# Altium integrated library MSTBV 2.5-xx-G-5.08.IntLib: 10 symbols
Pins are listed as number, name and electrical type; pins without a type are passive.

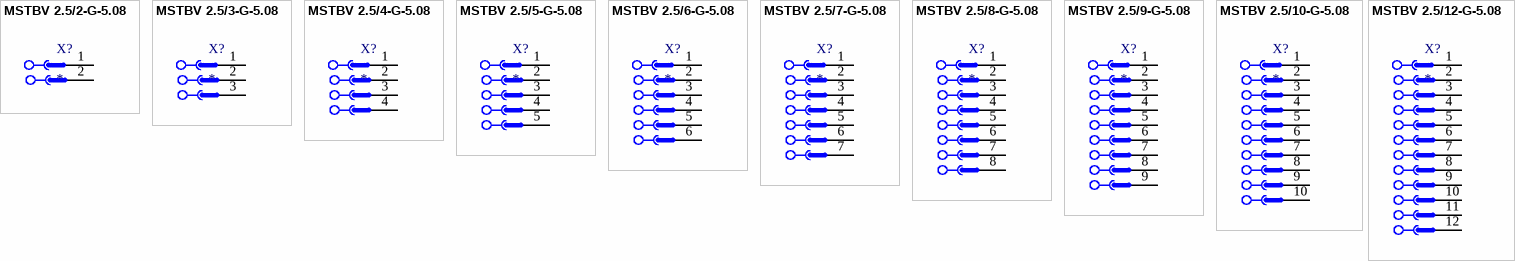
[diagram p0: symbols MSTBV 2.5/2-G-5.08 to MSTBV 2.5/12-G-5.08]

## MSTBV 2.5/2-G-5.08
designator X?
5.08mm Pluggable Terminal Blocks, PCB, Single Level, Through-Hole Solder Mounting; Manufacturer: Phoenix Contact; Company: Altium 3D Lib; Designer: Eng. Saeid Jorablo; Max Load Current: 12 A; Note: without side panels; Positions: 2; Rated voltage: 320 V; Assembly: Soldering; Contact surface: Tin; Pitch: 5.08 mm (200mil); Category: Connector; ComponentLink1Description: Datasheet; ComponentLink1URL: http://www.mouser.com/catalog/645/usd/1739.pdf; ComponentLink2Description: Manufactor website; ComponentLink2URL: https://www.phoenixcontact.com; Connector type: Pluggable Terminal Block; Mounting Technology: Through-Hole; Orientation: 180° Socket to Pin; Pin Count: 2; Publisher: Altium-Library.ir; Revision 1: 2014-05-31; Status: Published; Color: Green
footprint 1758018 (PHOENIX CONTACT, MSTBV 2,5/ 2-G-5,08 - Base strip, 2 position, 180° Socket-to-Pin Orientation, Without side panels)
pins: 1, 2

## MSTBV 2.5/3-G-5.08
designator X?
5.08mm Pluggable Terminal Blocks, PCB, Single Level, Through-Hole Solder Mounting; Manufacturer: Phoenix Contact; Company: Altium 3D Lib; Designer: Eng. Saeid Jorablo; Max Load Current: 12 A; Note: without side panels; Positions: 3; Rated voltage: 320 V; Assembly: Soldering; Contact surface: Tin; Pitch: 5.08 mm (200mil); Category: Connector; ComponentLink1Description: Datasheet; ComponentLink1URL: http://www.mouser.com/catalog/645/usd/1739.pdf; ComponentLink2Description: Manufactor website; ComponentLink2URL: https://www.phoenixcontact.com; Connector type: Pluggable Terminal Block; Mounting Technology: Through-Hole; Orientation: 180° Socket to Pin; Pin Count: 3; Publisher: Altium-Library.ir; Revision 1: 2014-05-31; Status: Published; Color: Green
footprint 1758021 (PHOENIX CONTACT, MSTBV 2,5/ 2-G-5,08 - Base strip, 3 position, 180° Socket-to-Pin Orientation, Without side panels)
pins: 1, 2, 3

## MSTBV 2.5/4-G-5.08
designator X?
5.08mm Pluggable Terminal Blocks, PCB, Single Level, Through-Hole Solder Mounting; Manufacturer: Phoenix Contact; Company: Altium 3D Lib; Designer: Eng. Saeid Jorablo; Max Load Current: 12 A; Note: without side panels; Positions: 4; Rated voltage: 320 V; Assembly: Soldering; Contact surface: Tin; Pitch: 5.08 mm (200mil); Category: Connector; ComponentLink1Description: Datasheet; ComponentLink1URL: http://www.mouser.com/catalog/645/usd/1739.pdf; ComponentLink2Description: Manufactor website; ComponentLink2URL: https://www.phoenixcontact.com; Connector type: Pluggable Terminal Block; Mounting Technology: Through-Hole; Orientation: 180° Socket to Pin; Pin Count: 4; Publisher: Altium-Library.ir; Revision 1: 2014-05-31; Status: Published; Color: Green
footprint 1758034 (PHOENIX CONTACT, MSTBV 2,5/ 2-G-5,08 - Base strip, 4 position, 180° Socket-to-Pin Orientation, Without side panels)
pins: 1, 2, 3, 4

## MSTBV 2.5/5-G-5.08
designator X?
5.08mm Pluggable Terminal Blocks, PCB, Single Level, Through-Hole Solder Mounting; Manufacturer: Phoenix Contact; Company: Altium 3D Lib; Designer: Eng. Saeid Jorablo; Max Load Current: 12 A; Note: without side panels; Positions: 5; Rated voltage: 320 V; Assembly: Soldering; Contact surface: Tin; Pitch: 5.08 mm (200mil); Category: Connector; ComponentLink1Description: Datasheet; ComponentLink1URL: http://www.mouser.com/catalog/645/usd/1739.pdf; ComponentLink2Description: Manufactor website; ComponentLink2URL: https://www.phoenixcontact.com; Connector type: Pluggable Terminal Block; Mounting Technology: Through-Hole; Orientation: 180° Socket to Pin; Pin Count: 5; Publisher: Altium-Library.ir; Revision 1: 2014-05-31; Status: Published; Color: Green
footprint 1758047 (PHOENIX CONTACT, MSTBV 2,5/ 2-G-5,08 - Base strip, 5 position, 180° Socket-to-Pin Orientation, Without side panels)
pins: 1, 2, 3, 4, 5

## MSTBV 2.5/6-G-5.08
designator X?
5.08mm Pluggable Terminal Blocks, PCB, Single Level, Through-Hole Solder Mounting; Manufacturer: Phoenix Contact; Company: Altium 3D Lib; Designer: Eng. Saeid Jorablo; Max Load Current: 12 A; Note: without side panels; Positions: 6; Rated voltage: 320 V; Assembly: Soldering; Contact surface: Tin; Pitch: 5.08 mm (200mil); Category: Connector; ComponentLink1Description: Datasheet; ComponentLink1URL: http://www.mouser.com/catalog/645/usd/1739.pdf; ComponentLink2Description: Manufactor website; ComponentLink2URL: https://www.phoenixcontact.com; Connector type: Pluggable Terminal Block; Mounting Technology: Through-Hole; Orientation: 180° Socket to Pin; Pin Count: 6; Publisher: Altium-Library.ir; Revision 1: 2014-05-31; Status: Published; Color: Green
footprint 1758050 (PHOENIX CONTACT, MSTBV 2,5/ 2-G-5,08 - Base strip, 6 position, 180° Socket-to-Pin Orientation, Without side panels)
pins: 1, 2, 3, 4, 5, 6

## MSTBV 2.5/7-G-5.08
designator X?
5.08mm Pluggable Terminal Blocks, PCB, Single Level, Through-Hole Solder Mounting; Manufacturer: Phoenix Contact; Company: Altium 3D Lib; Designer: Eng. Saeid Jorablo; Max Load Current: 12 A; Note: without side panels; Positions: 7; Rated voltage: 320 V; Assembly: Soldering; Contact surface: Tin; Pitch: 5.08 mm (200mil); Category: Connector; ComponentLink1Description: Datasheet; ComponentLink1URL: http://www.mouser.com/catalog/645/usd/1739.pdf; ComponentLink2Description: Manufactor website; ComponentLink2URL: https://www.phoenixcontact.com; Connector type: Pluggable Terminal Block; Mounting Technology: Through-Hole; Orientation: 180° Socket to Pin; Pin Count: 7; Publisher: Altium-Library.ir; Revision 1: 2014-05-31; Status: Published; Color: Green
footprint 1758063 (PHOENIX CONTACT, MSTBV 2,5/ 2-G-5,08 - Base strip, 7 position, 180° Socket-to-Pin Orientation, Without side panels)
pins: 1, 2, 3, 4, 5, 6, 7

## MSTBV 2.5/8-G-5.08
designator X?
5.08mm Pluggable Terminal Blocks, PCB, Single Level, Through-Hole Solder Mounting; Manufacturer: Phoenix Contact; Company: Altium 3D Lib; Designer: Eng. Saeid Jorablo; Max Load Current: 12 A; Note: without side panels; Positions: 8; Rated voltage: 320 V; Assembly: Soldering; Contact surface: Tin; Pitch: 5.08 mm (200mil); Category: Connector; ComponentLink1Description: Datasheet; ComponentLink1URL: http://www.mouser.com/catalog/645/usd/1739.pdf; ComponentLink2Description: Manufactor website; ComponentLink2URL: https://www.phoenixcontact.com; Connector type: Pluggable Terminal Block; Mounting Technology: Through-Hole; Orientation: 180° Socket to Pin; Pin Count: 8; Publisher: Altium-Library.ir; Revision 1: 2014-05-31; Status: Published; Color: Green
footprint 1758076 (PHOENIX CONTACT, MSTBV 2,5/ 2-G-5,08 - Base strip, 8 position, 180° Socket-to-Pin Orientation, Without side panels)
pins: 1, 2, 3, 4, 5, 6, 7, 8

## MSTBV 2.5/9-G-5.08
designator X?
5.08mm Pluggable Terminal Blocks, PCB, Single Level, Through-Hole Solder Mounting; Manufacturer: Phoenix Contact; Company: Altium 3D Lib; Designer: Eng. Saeid Jorablo; Max Load Current: 12 A; Note: without side panels; Positions: 9; Rated voltage: 320 V; Assembly: Soldering; Contact surface: Tin; Pitch: 5.08 mm (200mil); Category: Connector; ComponentLink1Description: Datasheet; ComponentLink1URL: http://www.mouser.com/catalog/645/usd/1739.pdf; ComponentLink2Description: Manufactor website; ComponentLink2URL: https://www.phoenixcontact.com; Connector type: Pluggable Terminal Block; Mounting Technology: Through-Hole; Orientation: 180° Socket to Pin; Pin Count: 9; Publisher: Altium-Library.ir; Revision 1: 2014-05-31; Status: Published; Color: Green
footprint 1758089 (PHOENIX CONTACT, MSTBV 2,5/ 2-G-5,08 - Base strip, 9 position, 180° Socket-to-Pin Orientation, Without side panels)
pins: 1, 2, 3, 4, 5, 6, 7, 8, 9

## MSTBV 2.5/10-G-5.08
designator X?
5.08mm Pluggable Terminal Blocks, PCB, Single Level, Through-Hole Solder Mounting; Manufacturer: Phoenix Contact; Company: Altium 3D Lib; Designer: Eng. Saeid Jorablo; Max Load Current: 12 A; Note: without side panels; Positions: 10; Rated voltage: 320 V; Assembly: Soldering; Contact surface: Tin; Pitch: 5.08 mm (200mil); Category: Connector; ComponentLink1Description: Datasheet; ComponentLink1URL: http://www.mouser.com/catalog/645/usd/1739.pdf; ComponentLink2Description: Manufactor website; ComponentLink2URL: https://www.phoenixcontact.com; Connector type: Pluggable Terminal Block; Mounting Technology: Through-Hole; Orientation: 180° Socket to Pin; Pin Count: 10; Publisher: Altium-Library.ir; Revision 1: 2014-05-31; Status: Published; Color: Green
footprint 1758092 (PHOENIX CONTACT, MSTBV 2,5/ 2-G-5,08 - Base strip, 10 position, 180° Socket-to-Pin Orientation, Without side panels)
pins: 1, 2, 3, 4, 5, 6, 7, 8, 9, 10

## MSTBV 2.5/12-G-5.08
designator X?
5.08mm Pluggable Terminal Blocks, PCB, Single Level, Through-Hole Solder Mounting; Manufacturer: Phoenix Contact; Company: Altium 3D Lib; Designer: Eng. Saeid Jorablo; Max Load Current: 12 A; Note: without side panels; Positions: 12; Rated voltage: 320 V; Assembly: Soldering; Contact surface: Tin; Pitch: 5.08 mm (200mil); Category: Connector; ComponentLink1Description: Datasheet; ComponentLink1URL: http://www.mouser.com/catalog/645/usd/1739.pdf; ComponentLink2Description: Manufactor website; ComponentLink2URL: https://www.phoenixcontact.com; Connector type: Pluggable Terminal Block; Mounting Technology: Through-Hole; Orientation: 180° Socket to Pin; Pin Count: 12; Publisher: Altium-Library.ir; Revision 1: 2014-05-31; Status: Published; Color: Green
footprint 1758115 (PHOENIX CONTACT, MSTBV 2,5/ 2-G-5,08 - Base strip, 12 position, 180° Socket-to-Pin Orientation, Without side panels)
pins: 1, 2, 3, 4, 5, 6, 7, 8, 9, 10, 11, 12